# Altium schematic symbol library AO4405.SchLib: 1 symbol
Pins are listed as number, name and electrical type; pins without a type are passive.

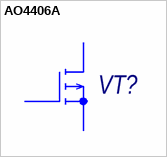
[diagram p0: symbol AO4406A]

## AO4406A
designator VT?
Type: Сборка транзисторная; Published: 24.11.2016; Publisher: Andrew Danich
footprint SOIC-8 (4320.8-А Small Outline; 8 Leads; Body Width 3.9 mm; Pitch 1.27 mm)
pins: 1 S "Исток", 2 G "Затвор", 3 D "Сток"